# EAGLE library part DIN41612 (library shock_own)
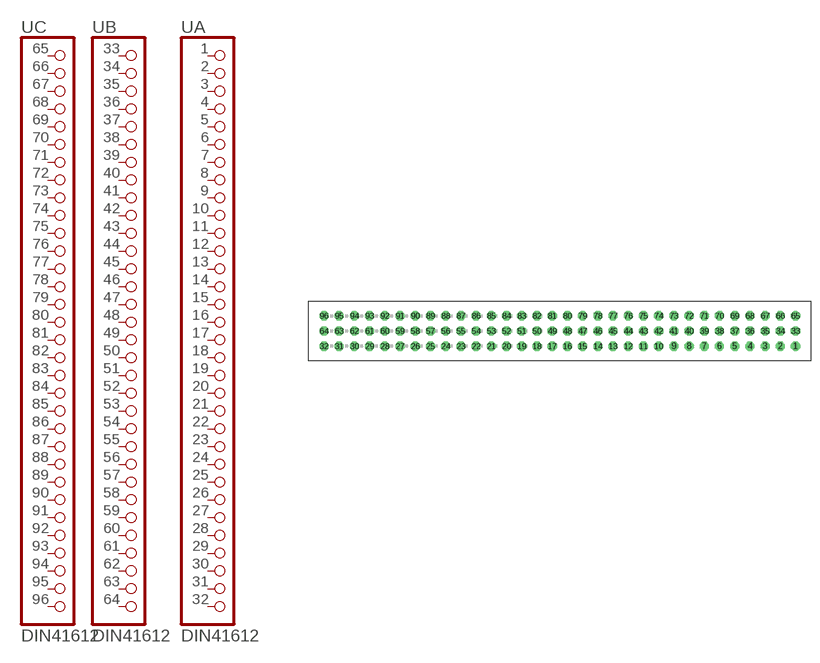
[diagram p5: symbol with the pads of DIN41612; footprint DIN41612]

Designator prefix -; gates A=DIN41612_SINGLEROW B=DIN41612_SINGLEROW C=DIN41612_SINGLEROW

## DIN41612  [DIN41612]
1  A:1  pas
2  A:2  pas
3  A:3  pas
4  A:4  pas
5  A:5  pas
6  A:6  pas
7  A:7  pas
8  A:8  pas
9  A:9  pas
10  A:10  pas
11  A:11  pas
12  A:12  pas
13  A:13  pas
14  A:14  pas
15  A:15  pas
16  A:16  pas
17  A:17  pas
18  A:18  pas
19  A:19  pas
20  A:20  pas
21  A:21  pas
22  A:22  pas
23  A:23  pas
24  A:24  pas
25  A:25  pas
26  A:26  pas
27  A:27  pas
28  A:28  pas
29  A:29  pas
30  A:30  pas
31  A:31  pas
32  A:32  pas
33  B:1  pas
34  B:2  pas
35  B:3  pas
36  B:4  pas
37  B:5  pas
38  B:6  pas
39  B:7  pas
40  B:8  pas
41  B:9  pas
42  B:10  pas
43  B:11  pas
44  B:12  pas
45  B:13  pas
46  B:14  pas
47  B:15  pas
48  B:16  pas
49  B:17  pas
50  B:18  pas
51  B:19  pas
52  B:20  pas
53  B:21  pas
54  B:22  pas
55  B:23  pas
56  B:24  pas
57  B:25  pas
58  B:26  pas
59  B:27  pas
60  B:28  pas
61  B:29  pas
62  B:30  pas
63  B:31  pas
64  B:32  pas
65  C:1  pas
66  C:2  pas
67  C:3  pas
68  C:4  pas
69  C:5  pas
70  C:6  pas
71  C:7  pas
72  C:8  pas
73  C:9  pas
74  C:10  pas
75  C:11  pas
76  C:12  pas
77  C:13  pas
78  C:14  pas
79  C:15  pas
80  C:16  pas
81  C:17  pas
82  C:18  pas
83  C:19  pas
84  C:20  pas
85  C:21  pas
86  C:22  pas
87  C:23  pas
88  C:24  pas
89  C:25  pas
90  C:26  pas
91  C:27  pas
92  C:28  pas
93  C:29  pas
94  C:30  pas
95  C:31  pas
96  C:32  pas

## Footprint DIN41612 (pad centres in mm)
drill 1.016 octagon: 1 36.83,-2.54; 2 34.29,-2.54; 3 31.75,-2.54; 4 29.21,-2.54; 5 26.67,-2.54; 6 24.13,-2.54; 7 21.59,-2.54; 8 19.05,-2.54; 9 16.51,-2.54; 10 13.97,-2.54; 11 11.43,-2.54; 12 8.89,-2.54; 13 6.35,-2.54; 14 3.81,-2.54; 15 1.27,-2.54; 16 -1.27,-2.54; 17 -3.81,-2.54; 18 -6.35,-2.54; 19 -8.89,-2.54; 20 -11.43,-2.54; 21 -13.97,-2.54; 22 -16.51,-2.54; 23 -19.05,-2.54; 24 -21.59,-2.54; 25 -24.13,-2.54; 26 -26.67,-2.54; 27 -29.21,-2.54; 28 -31.75,-2.54; 29 -34.29,-2.54; 30 -36.83,-2.54; 31 -39.37,-2.54; 32 -41.91,-2.54; 33 36.83,0; 34 34.29,0; 35 31.75,0; 36 29.21,0; 37 26.67,0; 38 24.13,0; 39 21.59,0; 40 19.05,0; 41 16.51,0; 42 13.97,0; 43 11.43,0; 44 8.89,0; 45 6.35,0; 46 3.81,0; 47 1.27,0; 48 -1.27,0; 49 -3.81,0; 50 -6.35,0; 51 -8.89,0; 52 -11.43,0; 53 -13.97,0; 54 -16.51,0; 55 -19.05,0; 56 -21.59,0; 57 -24.13,0; 58 -26.67,0; 59 -29.21,0; 60 -31.75,0; 61 -34.29,0; 62 -36.83,0; 63 -39.37,0; 64 -41.91,0; 65 36.83,2.54; 66 34.29,2.54; 67 31.75,2.54; 68 29.21,2.54; 69 26.67,2.54; 70 24.13,2.54; 71 21.59,2.54; 72 19.05,2.54; 73 16.51,2.54; 74 13.97,2.54; 75 11.43,2.54; 76 8.89,2.54; 77 6.35,2.54; 78 3.81,2.54; 79 1.27,2.54; 80 -1.27,2.54; 81 -3.81,2.54; 82 -6.35,2.54; 83 -8.89,2.54; 84 -11.43,2.54; 85 -13.97,2.54; 86 -16.51,2.54; 87 -19.05,2.54; 88 -21.59,2.54; 89 -24.13,2.54; 90 -26.67,2.54; 91 -29.21,2.54; 92 -31.75,2.54; 93 -34.29,2.54; 94 -36.83,2.54; 95 -39.37,2.54; 96 -41.91,2.54